# Altium footprint library SOT353.PcbLib: 1 footprints
Each footprint in its own frame and in the unit in brackets; x right, y up, seen from the top. Pads: shape width x height; smd on the part's side, far side on the other; paste and mask are expansions set on the pad; w line width, h text height; cw(c..) or ccw(c..) is an arc to the next point about the centre after c.
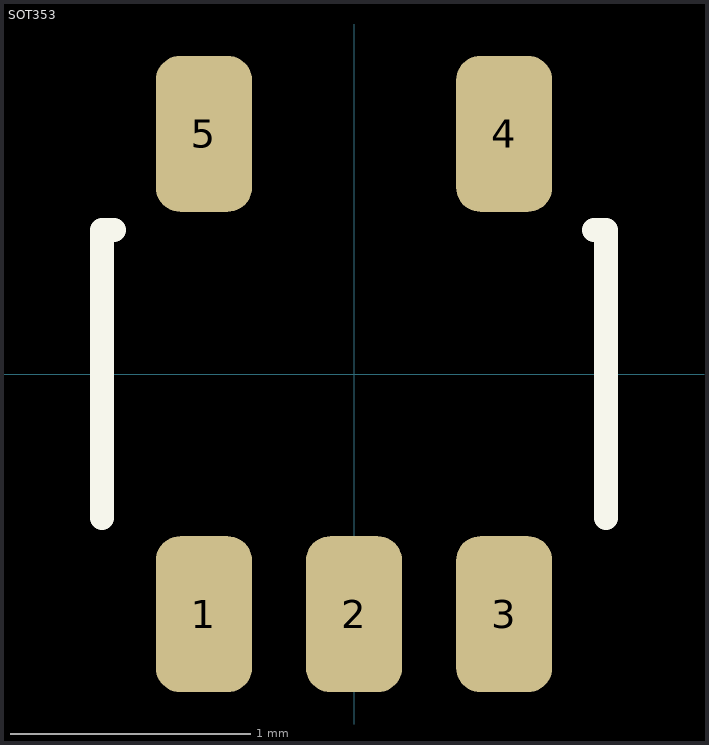
[diagram p0: the footprint, top view; thin cyan lines are the x and y axes]

## SOT353 [mm] "SOT-353/SC-88A; 5 Leads; Body 2.2 x 2.2 mm, inc. leads (LxW max)"
height 1
pads (5):
  rrect50% 0.4x0.65 smd: 1(-0.625,-1) 2(0,-1) 3(0.625,-1) 4(0.625,1) 5(-0.625,1)
Top Overlay:
  lines w0.1: -1.05,-0.6 -1.05,0.6 -1,0.6 ; 1,0.6 1.05,0.6 1.05,-0.6
3D body "SOT353.STEP": height 1, standoff 0, extent -1.05,-1.15 1.05,1.15